# Altium schematic symbol library Conn_Sullins_SWR25X-NRTC-S06-ST-BA_eec.SchLib: 1 symbol
Pins are listed as number, name and electrical type; pins without a type are passive.

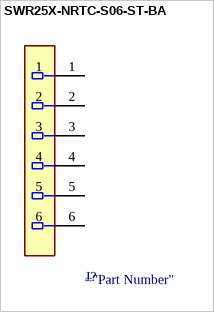
[diagram p0: symbol SWR25X-NRTC-S06-ST-BA]

## SWR25X-NRTC-S06-ST-BA
designator J?  (value not drawn)
footprint Sullins_SWR25X-NRTC-S06-ST-BA_MFG
footprint Sullins_SWR25X-NRTC-S06-ST-BA_MFG
pins: 1, 2, 3, 4, 5, 6